# EAGLE library part TINY2313 (library serialcouple)
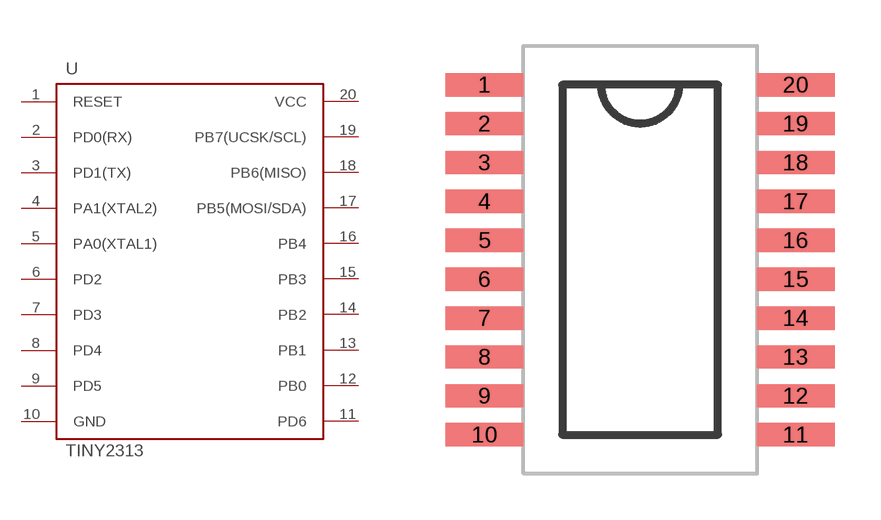
[diagram p3: symbol with the pads of SOIC-20; footprint SOIC-20]

Designator prefix -

## TINY2313  [SOIC-20]
1  RESET
2  PD0(RX)
3  PD1(TX)
4  PA1(XTAL2)
5  PA0(XTAL1)
6  PD2
7  PD3
8  PD4
9  PD5
10  GND
11  PD6
12  PB0
13  PB1
14  PB2
15  PB3
16  PB4
17  PB5(MOSI/SDA)
18  PB6(MISO)
19  PB7(UCSK/SCL)
20  VCC

## Footprint SOIC-20 (pad centres in mm)
smd 2.54 x 0.762: 1 -7.62,5.08; 2 -7.62,3.81; 3 -7.62,2.54; 4 -7.62,1.27; 5 -7.62,0; 6 -7.62,-1.27; 7 -7.62,-2.54; 8 -7.62,-3.81; 9 -7.62,-5.08; 10 -7.62,-6.35; 11 2.54,-6.35; 12 2.54,-5.08; 13 2.54,-3.81; 14 2.54,-2.54; 15 2.54,-1.27; 16 2.54,0; 17 2.54,1.27; 18 2.54,2.54; 19 2.54,3.81; 20 2.54,5.08